# EAGLE library part BMP280 (library BMP280)
A 100nF capacitor is recommended between Vdd and GND, and also between Vddio and GND. Vdd & Vddio 3.3v I2C Address: ADDR -> Vddio = 0x77, ADDR -> GND = 0x76
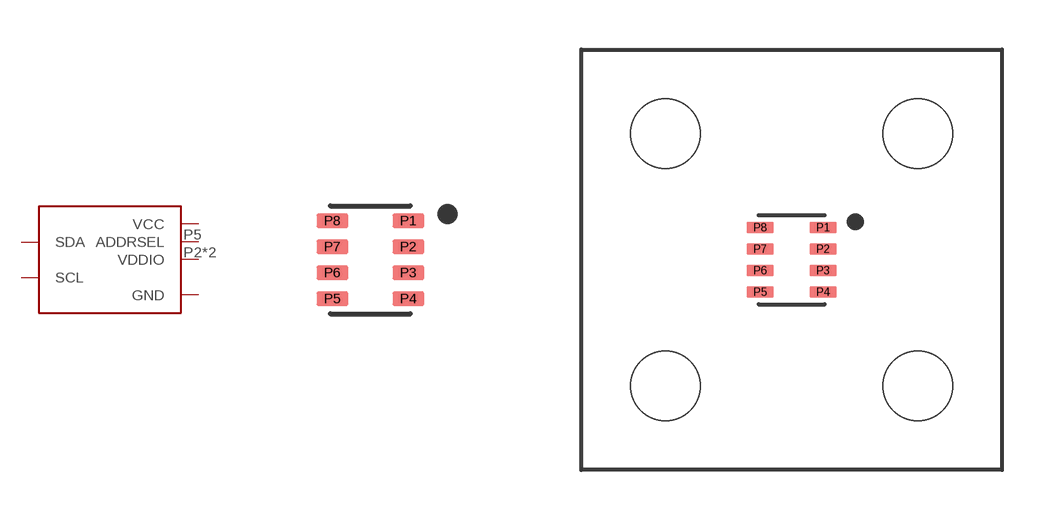
[diagram p0: symbol with the pads of LGA-8; footprints LGA-8, BMP280_PITOT]

Designator prefix -

## BMP280 (AVAILABILITY: Good; DESCRIPTION: BMP280 Absolute Barometric Pressure Sensor for Battery Powered Devices 2 x 2.5mm; MF: Bosch; MP: BMP280; PACKAGE: None; PRICE: 2.16 USD)  [LGA-8]
P1  GND
P2  VDDIO
P3  SDA
P4  SCL
P5  ADDRSEL
P6  VDDIO
P7  GND
P8  VCC

## BMP280PITOT  [BMP280_PITOT]
P1  GND
P2  VCC
P3  SDA
P4  SCL
P5  ADDRSEL
P6  VDDIO
P7  GND
P8  VCC

## Footprint LGA-8 (pad centres in mm)
smd 0.8 x 0.35: P1 0.95,0.975; P2 0.95,0.325; P3 0.95,-0.325; P4 0.95,-0.975; P5 -0.95,-0.975; P6 -0.95,-0.325; P7 -0.95,0.325; P8 -0.95,0.975

## Footprint BMP280_PITOT (pad centres in mm)
smd 0.8 x 0.35: P1 0.95,0.975; P2 0.95,0.325; P3 0.95,-0.325; P4 0.95,-0.975; P5 -0.95,-0.975; P6 -0.95,-0.325; P7 -0.95,0.325; P8 -0.95,0.975
hole 2.1 at -3.81,3.81
hole 2.1 at 3.81,3.81
hole 2.1 at 3.81,-3.81
hole 2.1 at -3.81,-3.81